# EAGLE library part MH_CD42_MODULE (library kxn_Standard_module_ForTutorial)
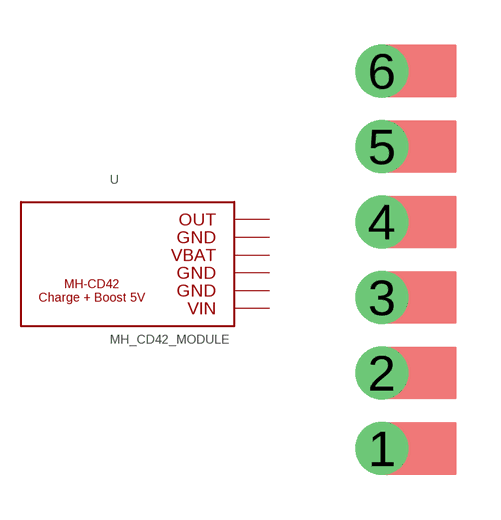
[diagram p5: symbol with the pads of MODULE_MH_CD42_V1; footprint MODULE_MH_CD42_V1]

Designator prefix -

## MH_CD42_MODULE_V1  [MODULE_MH_CD42_V1]
1  1  pwr
2  2  in
3  3
4  4
5  5
6  6

## Footprint MODULE_MH_CD42_V1 (pad centres in mm)
drill 0.9 pad 1.778: 1 11.5,-6.35; 2 11.5,-3.81; 3 11.5,-1.27; 4 11.5,1.27; 5 11.5,3.81; 6 11.5,6.35